# Altium schematic symbol library MCP2517FDT-H_SL.SchLib: 1 symbol
Pins are listed as number, name and electrical type; pins without a type are passive.

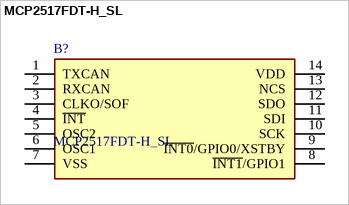
[diagram p0: symbol MCP2517FDT-H_SL]

## MCP2517FDT-H_SL
designator B?
MICROCHIP - MCP2517FDT-H/SL - CAN CONTROLLER, 2MBPS, -40 TO 150DEG C; Geometry.Height: 1.75mm; Mouser Part Number: 579-MCP2517FDT-H/SL; Mouser Price/Stock: https://www.mouser.co.uk/ProductDetail/Microchip-Technology/MCP2517FDT-H-SL?qs=HXFqYaX1Q2yPNIcwI%252BWyxQ%3D%3D; Manufacturer_Name: Microchip; Manufacturer_Part_Number: MCP2517FDT-H/SL; Datasheet Link: http://www.microchip.com/mymicrochip/filehandler.aspx?ddocname=en600327
footprint SOIC127P600X175-14N
pins: 1 TXCAN, 2 RXCAN, 3 CLKO/SOF, 4 ~{INT}, 5 OSC2, 6 OSC1, 7 VSS, 8 ~{INT1}/GPIO1, 9 ~{INT0}/GPIO0/XSTBY, 10 SCK, 11 SDI, 12 SDO, 13 NCS, 14 VDD